# Altium schematic symbol library 2020-10-28_07-41-47.SchLib: 2 symbols
Pins are listed as number, name and electrical type; pins without a type are passive.

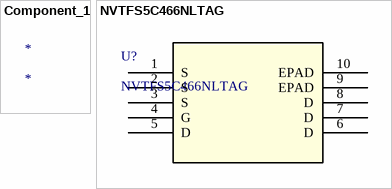
[diagram p0: symbols Component_1 to NVTFS5C466NLTAG]

## Component_1
designator *

## NVTFS5C466NLTAG
designator U?
No Description Available; Vendor: ON Semiconductor; Built_By: EMA_Jessica; SourceLibrary: ON_Semiconductor_2019-12-30; Manufacturer_Part_Number: NVTFS5C466NLTAG; Copyright: Copyright (C) 2018 Accelerated Designs. All rights reserved; RefDes: RefDes; Type: DEV
footprint WDFN8_3P3X3P3_ONS
pins: 1 S, 2 S, 3 S, 4 G, 5 D, 6 D, 7 D, 8 D, 9 EPAD, 10 EPAD